# Altium footprint library ECE453_PWR.PcbLib: 18 footprints (part 1 of 2)
Each footprint in its own frame and in the unit in brackets; x right, y up, seen from the top. Pads: shape width x height; smd on the part's side, far side on the other; paste and mask are expansions set on the pad; w line width, h text height; cw(c..) or ccw(c..) is an arc to the next point about the centre after c.
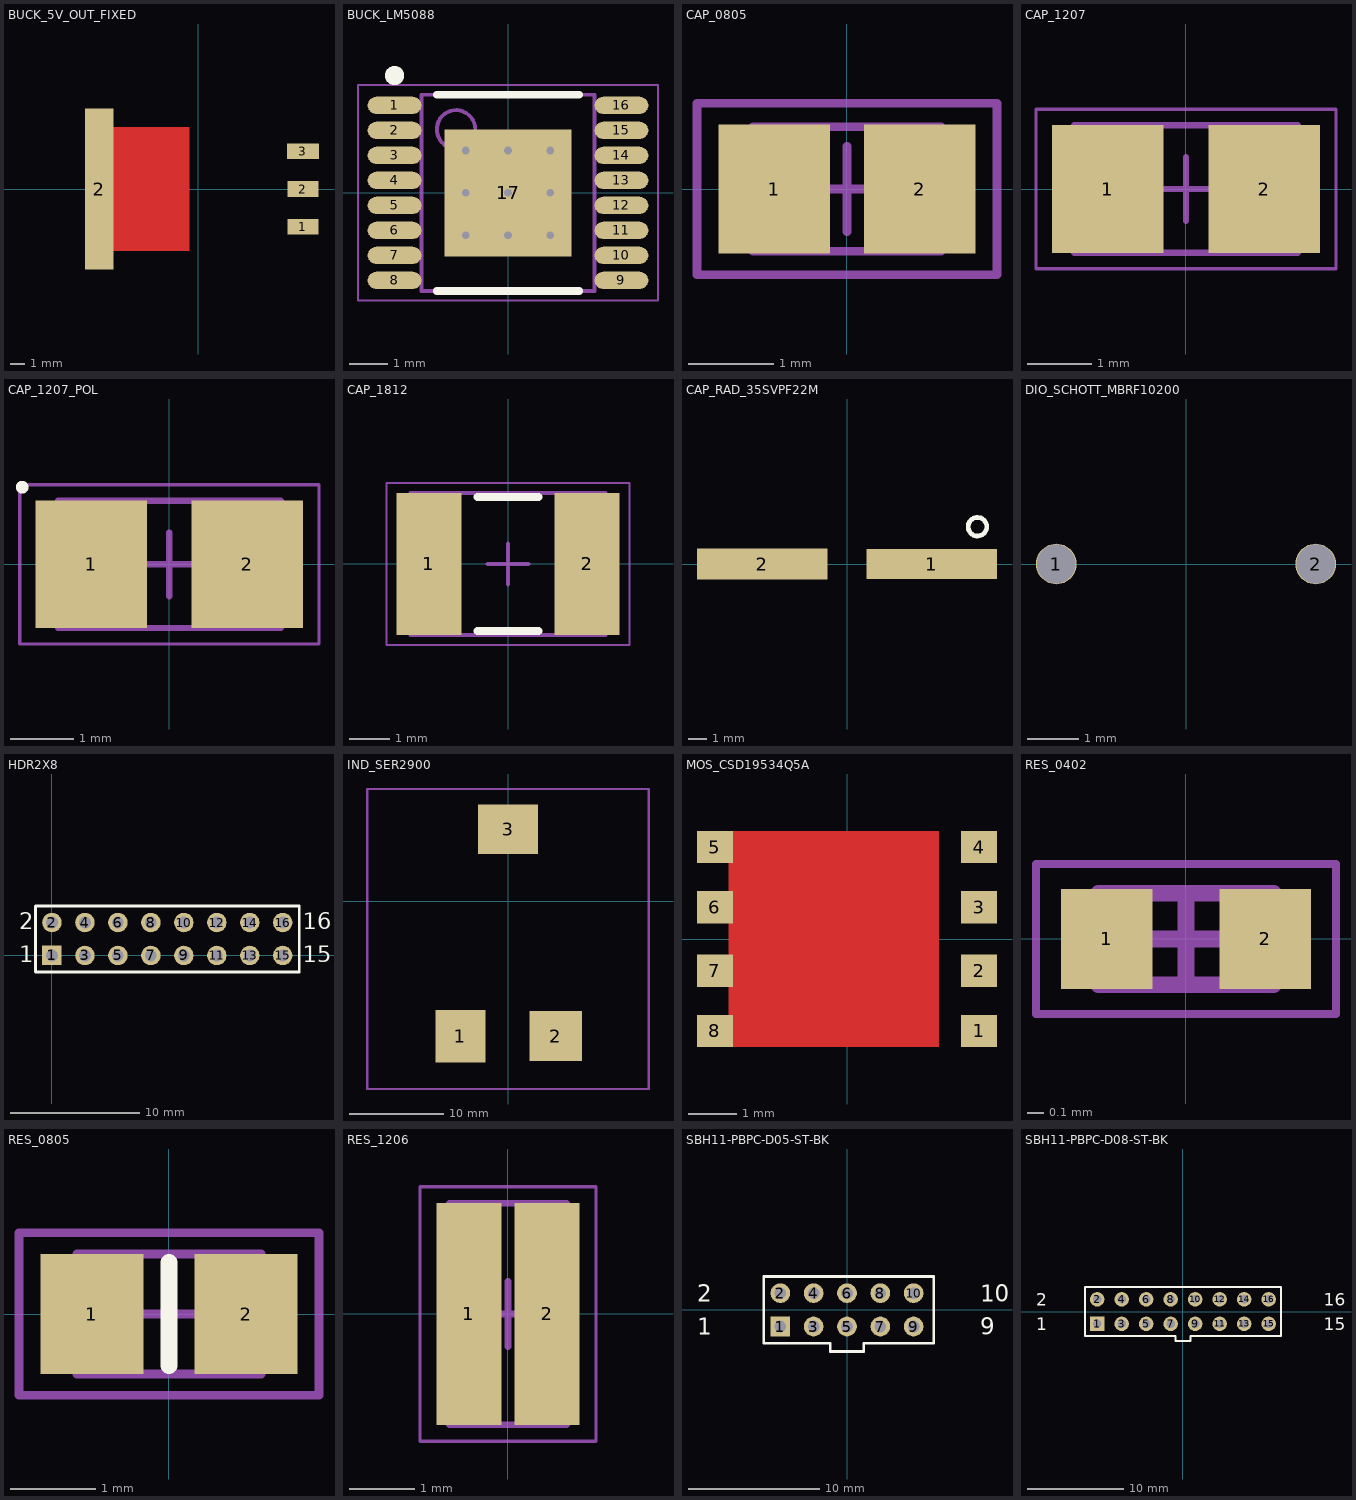
[diagram p0: the footprints below, top view; thin cyan lines are the x and y axes]

## BUCK_5V_OUT_FIXED [mm]
pads (4):
  rect 2.06x1.07 smd: 1(7.025,-2.54) 2(7.025,0)
  rect 1.91x10.8 smd: 2(-6.67,0)
  rect 2.16x1.07 smd: 3(7.025,2.54)
Top Layer:
  region: -5.715,-4.165 -0.635,-4.165 -0.635,4.165 -5.715,4.165

## BUCK_LM5088 [mm] "TSOP, 16-Leads, Body 5.00x4.40mm, Pitch 0.65mm, Thermal Pad 3.30x3.30mm, IPC Medium Density"
height 1.2
pads (17):
  oval 1.4x0.45 smd: 1(-2.95,2.275) 2(-2.95,1.625) 3(-2.95,0.975) 4(-2.95,0.325) 5(-2.95,-0.325) 6(-2.95,-0.975) 7(-2.95,-1.625) 8(-2.95,-2.275) 9(2.95,-2.275) 10(2.95,-1.625) 11(2.95,-0.975) 12(2.95,-0.325) 13(2.95,0.325) 14(2.95,0.975) 15(2.95,1.625) 16(2.95,2.275)
  rect 3.3x3.3 smd: 17(0,0)
via -1.1,1.1 diameter 0.5 hole 0.2
via 0,1.1 diameter 0.5 hole 0.2
via 1.1,1.1 diameter 0.5 hole 0.2
via -1.1,0 diameter 0.5 hole 0.2
via 0,0 diameter 0.5 hole 0.2
via 1.1,0 diameter 0.5 hole 0.2
via -1.1,-1.1 diameter 0.5 hole 0.2
via 0,-1.1 diameter 0.5 hole 0.2
via 1.1,-1.1 diameter 0.5 hole 0.2
Top Overlay:
  circle w0.25: c-2.95,3.05 r0.125
  lines w0.2: -1.85,-2.55 1.85,-2.55 ; -1.85,2.55 1.85,2.55
Mechanical 13:
  circle w0.1: c-1.35,1.65 r0.5
  lines w0.1: -2.25,-2.55 -2.25,2.55 2.25,2.55 2.25,-2.55 -2.25,-2.55
Mechanical 15:
  lines w0.05: -3.9,-2.8 -3.9,2.8 3.9,2.8 3.9,-2.8 -3.9,-2.8
  lines w0.1: -0.5,0 0.5,0 ; 0,-0.5 0,0.5
3D body: height 1.2, standoff 0.05, extent -2.25,-2.55 2.25,2.55

## CAP_0805 [mm]
pads (2):
  rect 1.3x1.5 smd: 1(-0.85,0) 2(0.85,0)
Mechanical 13:
  lines w0.1: -1.1,-0.725 -1.1,0.725 1.1,0.725 1.1,-0.725 -1.1,-0.725
Mechanical 15:
  lines w0.1: -0.5,0 0.5,0 ; 0,-0.5 0,0.5 ; -1.75,-1 -1.75,1 1.75,1 1.75,-1 -1.75,-1
3D body: height 1.1, standoff 0, extent -1.1,-0.725 1.1,0.725

## CAP_1207 [mm] "Chip Capacitor, 2-Leads, Body 3.20x1.70mm, IPC Medium Density"
height 1.6
pads (2):
  rect 1.75x2 smd: 1(-1.225,0) 2(1.225,0)
Mechanical 13:
  lines w0.1: -1.75,-1 -1.75,1 1.75,1 1.75,-1 -1.75,-1
Mechanical 15:
  lines w0.05: -2.35,-1.25 -2.35,1.25 2.35,1.25 2.35,-1.25 -2.35,-1.25
  lines w0.1: -0.5,0 0.5,0 ; 0,-0.5 0,0.5
3D body: height 1.6, standoff 0, extent -0.95,-1 0.95,1
3D body: height 1.6, standoff 0, extent -1.75,-1 -0.95,1
3D body: height 1.6, standoff 0, extent 0.95,-1 1.75,1

## CAP_1207_POL [mm] "Chip Capacitor, 2-Leads, Body 3.20x1.70mm, IPC Medium Density"
height 1.6
pads (2):
  rect 1.75x2 smd: 1(-1.225,0) 2(1.225,0)
Top Overlay:
  circle w0.1: c-2.312,1.212 r0.05
Mechanical 13:
  lines w0.1: -1.75,-1 -1.75,1 1.75,1 1.75,-1 -1.75,-1
Mechanical 15:
  lines w0.05: -2.35,-1.25 -2.35,1.25 2.35,1.25 2.35,-1.25 -2.35,-1.25
  lines w0.1: -0.5,0 0.5,0 ; 0,-0.5 0,0.5
3D body: height 1.6, standoff 0, extent -0.95,-1 0.95,1
3D body: height 1.6, standoff 0, extent -1.75,-1 -0.95,1
3D body: height 1.6, standoff 0, extent 0.95,-1 1.75,1

## CAP_1812 [mm] "Chip Capacitor, 2-Leads, Body 4.50x3.20mm, IPC Medium Density"
height 1.1
pads (2):
  rect 1.6x3.5 smd: 1(-1.95,0) 2(1.95,0)
Top Overlay:
  lines w0.2: -0.75,-1.65 0.75,-1.65 ; -0.75,1.65 0.75,1.65
Mechanical 13:
  lines w0.1: -2.4,-1.75 -2.4,1.75 2.4,1.75 2.4,-1.75 -2.4,-1.75
Mechanical 15:
  lines w0.05: -3,-2 -3,2 3,2 3,-2 -3,-2
  lines w0.1: -0.5,0 0.5,0 ; 0,-0.5 0,0.5
3D body: height 1.1, standoff 0, extent -1.8,-1.75 1.8,1.75
3D body: height 1.1, standoff 0, extent -2.4,-1.75 -1.8,1.75
3D body: height 1.1, standoff 0, extent 1.8,-1.75 2.4,1.75

## CAP_RAD_35SVPF22M [mm]
pads (2):
  rect 7x1.6 smd: 1(4.55,0)
  rect 7x1.66 smd: 2(-4.55,0)
Top Overlay:
  circle w0.254: c7,2 r0.5

## DIO_SCHOTT_MBRF10200 [mm]
pads (2):
  round 0.8 hole 0.762: 1(-2.55,0) 2(2.55,0)

## HDR2X8 [mm] "Connector; Header; 8x2 Position"
pads (16):
  rect 1.5x1.5 hole 0.9: 1(0,0)
  round 1.5 hole 0.9: 2(0,2.54) 3(2.54,0) 4(2.54,2.54) 5(5.08,0) 6(5.08,2.54) 7(7.62,0) 8(7.62,2.54) 9(10.16,0) 10(10.16,2.54) 11(12.7,0) 12(12.7,2.54) 13(15.24,0) 14(15.24,2.54) 15(17.78,0) 16(17.78,2.54)
Top Overlay:
  lines w0.2: -1.27,-1.27 19.05,-1.27 19.05,3.81 -1.27,3.81 -1.27,-1.27
  text "16" at 19.304,2.032 h1.27
  text "15" at 19.304,-0.508 h1.27
  text "1" at -2.54,-0.508 h1.27
  text "2" at -2.54,2.032 h1.27

## IND_SER2900 [mm]
pads (3):
  rect 5.33x5.59 smd: 1(-5.075,-14.355)
  rect 5.59x5.33 smd: 2(5.075,-14.355)
  rect 6.35x5.28 smd: 3(0,7.72)
Mechanical 1:
  lines w0.254: -15,-20 -15,12 15,12 15,-20 -15,-20

## MOS_CSD19534Q5A [mm]
pads (8):
  rect 0.75x0.675 smd: 1(2.753,-1.918) 2(2.753,-0.66) 3(2.753,0.66) 4(2.753,1.918) 5(-2.753,1.918) 6(-2.753,0.66) 7(-2.753,-0.66) 8(-2.753,-1.918)
Top Layer:
  rectangle: -2.473,-2.255 1.918,2.255

## RES_0402 [mm] "Chip Resistor, 2-Leads, Body 1.02x0.52mm, IPC Medium Density"
height 0.4
pads (2):
  rect 0.55x0.6 smd: 1(-0.475,0) 2(0.475,0)
Mechanical 13:
  lines w0.1: -0.525,-0.275 -0.525,0.275 0.525,0.275 0.525,-0.275 -0.525,-0.275
Mechanical 15:
  lines w0.05: -0.9,-0.45 -0.9,0.45 0.9,0.45 0.9,-0.45 -0.9,-0.45
  lines w0.1: -0.275,0 0.275,0 ; 0,-0.275 0,0.275
3D body: height 0.4, standoff 0, extent -0.325,-0.275 0.325,0.275
3D body: height 0.4, standoff 0, extent -0.525,-0.275 -0.325,0.275
3D body: height 0.4, standoff 0, extent 0.325,-0.275 0.525,0.275

## RES_0805 [mm] "Chip Resistor, Body 2.0x1.3mm, IPC Medium Density"
height 0.65
pads (2):
  rect 1.2x1.4 smd: 1(-0.9,0) 2(0.9,0)
Top Overlay:
  lines w0.2: 0,-0.6 0,0.6
Mechanical 13:
  lines w0.1: -1.075,-0.7 -1.075,0.7 1.075,0.7 1.075,-0.7 -1.075,-0.7
Mechanical 15:
  lines w0.1: -0.5,0 0.5,0 ; 0,-0.5 0,0.5 ; -1.75,-0.95 -1.75,0.95 1.75,0.95 1.75,-0.95 -1.75,-0.95
3D body: height 0.65, standoff 0, extent -1.075,-0.7 1.075,0.7

## RES_1206 [mm] "Chip Resistor, 2-Leads, Body 1.60x3.20mm, IPC Medium Density"
height 0.6
pads (2):
  rect 1x3.4 smd: 1(-0.6,0) 2(0.6,0)
Mechanical 13:
  lines w0.1: -0.9,-1.7 0.9,-1.7 0.9,1.7 -0.9,1.7 -0.9,-1.7
Mechanical 15:
  lines w0.05: -1.35,-1.95 1.35,-1.95 1.35,1.95 -1.35,1.95 -1.35,-1.95
  lines w0.1: -0.5,0 0.5,0 ; 0,-0.5 0,0.5
3D body: height 0.6, standoff 0, extent 0.45,-1.7 0.9,1.7
3D body: height 0.6, standoff 0, extent -0.9,-1.7 -0.45,1.7
3D body: height 0.6, standoff 0, extent -0.45,-1.7 0.45,1.7

## SBH11-PBPC-D05-ST-BK [mm] "Connector; Header; 5x2 Position"
pads (10):
  rect 1.5x1.5 hole 0.9: 1(-5.08,-1.27)
  round 1.5 hole 0.9: 2(-5.08,1.27) 3(-2.54,-1.27) 4(-2.54,1.27) 5(0,-1.27) 6(0,1.27) 7(2.54,-1.27) 8(2.54,1.27) 9(5.08,-1.27) 10(5.08,1.27)
Top Overlay:
  lines w0.2: -6.35,-2.54 -6.35,2.54 6.604,2.54 6.604,-2.54 ; -6.34,-2.538 -1.27,-2.538 -1.27,-3.175 1.27,-3.175 1.27,-2.54 4.592,-2.54 ; 4.599,-2.547 6.604,-2.547
  text "10" at 10.16,0.635 h1.27
  text "9" at 10.16,-1.905 h1.27
  text "1" at -11.43,-1.905 h1.27
  text "2" at -11.43,0.635 h1.27
3D body "SBH11-_ _ _C-D05-ST-_ _.STEP": height 9.65, standoff -2.45, extent -10.151,-4.394 10.049,4.706

## SBH11-PBPC-D08-ST-BK [mm] "Connector; Header; 8x2 Position"
pads (16):
  rect 1.5x1.5 hole 0.9: 1(-8.89,-1.27)
  round 1.5 hole 0.9: 2(-8.89,1.27) 3(-6.35,-1.27) 4(-6.35,1.27) 5(-3.81,-1.27) 6(-3.81,1.27) 7(-1.27,-1.27) 8(-1.27,1.27) 9(1.27,-1.27) 10(1.27,1.27) 11(3.81,-1.27) 12(3.81,1.27) 13(6.35,-1.27) 14(6.35,1.27) 15(8.89,-1.27) 16(8.89,1.27)
Top Overlay:
  lines w0.2: -10.16,-2.54 -10.16,2.54 10.16,2.54 10.16,-2.54 ; -10.15,-2.538 -0.79,-2.538 -0.79,-3.028 -0.788,-3.026 0.789,-3.026 0.789,-2.547 10.137,-2.547 10.171,-2.513
  text "2" at -15.24,0.635 h1.27
  text "1" at -15.24,-1.905 h1.27
  text "15" at 14.605,-1.905 h1.27
  text "16" at 14.605,0.635 h1.27
3D body "SBH11-_ _ _C-D08-ST-_ _.STEP": height 9.26, standoff -2.84, extent -13.9,-4.339 13.92,4.761